# EAGLE library part DIGITAL_BUFFER (library pie)
8-bit, non-inverting, IC Buffer
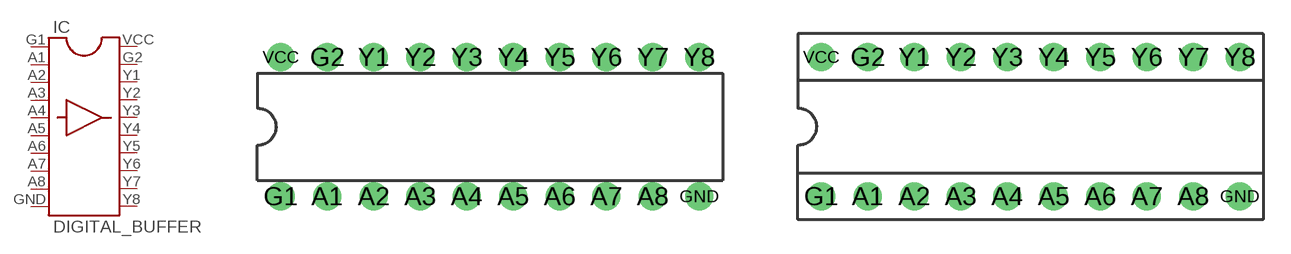
[diagram p15: symbol with the pads of DIGITAL_BUFFER; footprints DIGITAL_BUFFER, DIGITAL_BUFFER_SOCKET]

Designator prefix IC

## DIGITAL_BUFFERPTH (PIE_DIGIKEY-PN: TC74HC541APF-ND)  [DIGITAL_BUFFER]
A1  A1  pas
A2  A2  pas
A3  A3  pas
A4  A4  pas
A5  A5  pas
A6  A6  pas
A7  A7  pas
A8  A8  pas
G1  G1  pas
G2  G2  pas
GND  GND  pas
VCC  VCC  pas
Y1  Y1  pas
Y2  Y2  pas
Y3  Y3  pas
Y4  Y4  pas
Y5  Y5  pas
Y6  Y6  pas
Y7  Y7  pas
Y8  Y8  pas

## DIGITAL_BUFFERSOCKET (PIE_DIGIKEY-PN: TC74HC541APF-ND)  [DIGITAL_BUFFER_SOCKET]
Pads as for DIGITAL_BUFFER

## Footprint DIGITAL_BUFFER (pad centres in mm)
DIL 20 Non inverting digital buffer TC74HC541AP IC for digital I/O buffering on the Panda Source PTH version: www.digikey.com/product-detail/en/TC74HC541AP(F)/TC74HC541APF-ND
drill 1: A1 -8.89,-3.81; A2 -6.35,-3.81; A3 -3.81,-3.81; A4 -1.27,-3.81; A5 1.27,-3.81; A6 3.81,-3.81; A7 6.35,-3.81; A8 8.89,-3.81; G1 -11.43,-3.81; G2 -8.89,3.81; GND 11.43,-3.81; VCC -11.43,3.81; Y1 -6.35,3.81; Y2 -3.81,3.81; Y3 -1.27,3.81; Y4 1.27,3.81; Y5 3.81,3.81; Y6 6.35,3.81; Y7 8.89,3.81; Y8 11.43,3.81

## Footprint DIGITAL_BUFFER_SOCKET (pad centres in mm)
DIL 20 Socket for the TC74HC541AP digital noninverting buffer for Panda I/O Pins Source: http://www.digikey.com/product-detail/en/1-390261-6/A100208-ND
drill 1: A1 -8.89,-3.81; A2 -6.35,-3.81; A3 -3.81,-3.81; A4 -1.27,-3.81; A5 1.27,-3.81; A6 3.81,-3.81; A7 6.35,-3.81; A8 8.89,-3.81; G1 -11.43,-3.81; G2 -8.89,3.81; GND 11.43,-3.81; VCC -11.43,3.81; Y1 -6.35,3.81; Y2 -3.81,3.81; Y3 -1.27,3.81; Y4 1.27,3.81; Y5 3.81,3.81; Y6 6.35,3.81; Y7 8.89,3.81; Y8 11.43,3.81